# Altium footprint library Connectors.PcbLib: 20 footprints (part 2 of 2)
Each footprint in its own frame and in the unit in brackets; x right, y up, seen from the top. Pads: shape width x height; smd on the part's side, far side on the other; paste and mask are expansions set on the pad; w line width, h text height; cw(c..) or ccw(c..) is an arc to the next point about the centre after c.
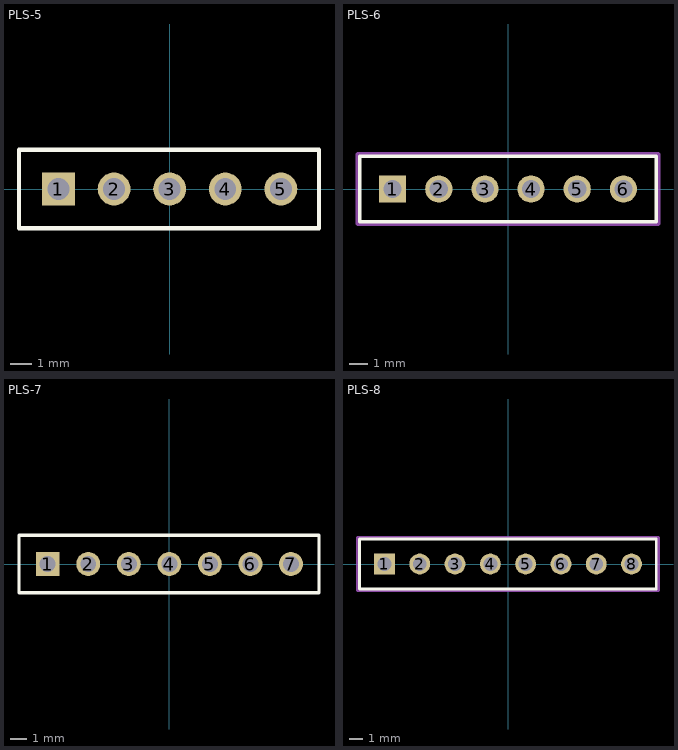
[diagram p1: the footprints below, top view; thin cyan lines are the x and y axes]

## PLS-5 [mm]
pads (5):
  rect 1.5x1.5 hole 1: 1(-5.08,0)
  round 1.5 hole 1: 2(-2.54,0) 3(0,0) 4(2.54,0) 5(5.08,0)
Top Overlay:
  lines w0.2: -6.88,-1.8 -6.88,1.8 6.82,1.8 6.82,-1.8 -6.88,-1.8
3D body "pin_header_aw140-eg-g05d.stp": height 8.2, standoff -3, extent -6.244,-1.264 6.456,1.235

## PLS-6 [mm]
pads (6):
  rect 1.5x1.5 hole 1: 1(-6.35,0)
  round 1.5 hole 1: 2(-3.81,0) 3(-1.27,0) 4(1.27,0) 5(3.81,0) 6(6.35,0)
Top Overlay:
  lines w0.2: -8.15,-1.8 -8.15,1.8 8.15,1.8 8.15,-1.8 -8.15,-1.8
Mechanical 29:
  lines w0.254: -8.255,-1.905 8.255,-1.905 8.255,1.905 -8.255,1.905 -8.255,-1.905
  text ".Designator" at -5.08,-0.635 h1.52
3D body "pin_header_a-sl254-ea-g06mp1.stp": height 8.5, standoff -3, extent -7.614,-1.164 7.626,1.336

## PLS-7 [mm]
pads (7):
  rect 1.5x1.5 hole 1: 1(-7.62,0)
  round 1.5 hole 1: 2(-5.08,0) 3(-2.54,0) 4(0,0) 5(2.54,0) 6(5.08,0) 7(7.62,0)
Top Overlay:
  lines w0.2: -9.42,-1.8 -9.42,1.8 9.38,1.8 9.38,-1.8 -9.42,-1.8
3D body "PLS-7.stp": height 8.5, standoff -3, extent -8.91,-1.2 8.87,1.3

## PLS-8 [mm]
pads (8):
  rect 1.5x1.5 hole 1: 1(-8.89,0)
  round 1.5 hole 1: 2(-6.35,0) 3(-3.81,0) 4(-1.27,0) 5(1.27,0) 6(3.81,0) 7(6.35,0) 8(8.89,0)
Top Overlay:
  lines w0.2: -10.69,-1.8 10.668,-1.8 10.668,1.8 -10.69,1.8 -10.69,-1.8
Mechanical 29:
  lines w0.254: -10.795,-1.905 -10.795,1.905 10.795,1.905 10.795,-1.905 -10.795,-1.905
  text ".Designator" at -6.35,-0.635 h1.52
3D body "PLS-8.STEP": height 8.8, standoff -3, extent -10.16,-1.27 10.16,1.27